# Altium footprint library 22uH.PcbLib: 1 footprints
Each footprint in its own frame and in the unit in brackets; x right, y up, seen from the top. Pads: shape width x height; smd on the part's side, far side on the other; paste and mask are expansions set on the pad; w line width, h text height; cw(c..) or ccw(c..) is an arc to the next point about the centre after c.
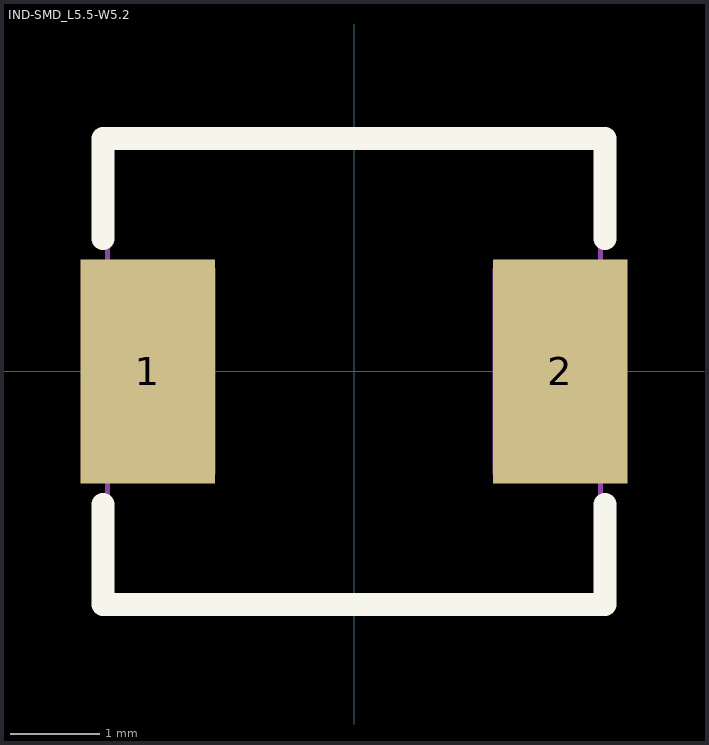
[diagram p0: the footprint, top view; thin cyan lines are the x and y axes]

## IND-SMD_L5.5-W5.2 [mm]
pads (2):
  rect 1.5x2.5 smd: 1(-2.3,0) 2(2.3,0)
Top Overlay:
  lines w0.254: -2.8,-1.481 -2.8,-2.6 2.8,-2.6 2.8,-1.481 ; -2.8,1.481 -2.8,2.6 2.8,2.6 2.8,1.481
Mechanical 15:
  region: -1.55,1.15 -1.55,-1.15 -2.75,-1.15 -2.75,1.15
  region: 2.75,1.15 2.75,-1.15 1.55,-1.15 1.55,1.15
  region: -2.69,-2.6 -2.691,-2.576 -2.726,-2.542 -2.774,-2.542 -2.809,-2.576 -2.81,-2.6 -2.809,-2.624 -2.774,-2.658 -2.726,-2.658 -2.691,-2.624 -2.69,-2.6
  lines w0.051: -2.75,-2.6 2.75,-2.6 2.75,2.6 -2.75,2.6 -2.75,-2.6